# EAGLE library part ISM420X_GPS (library custom)
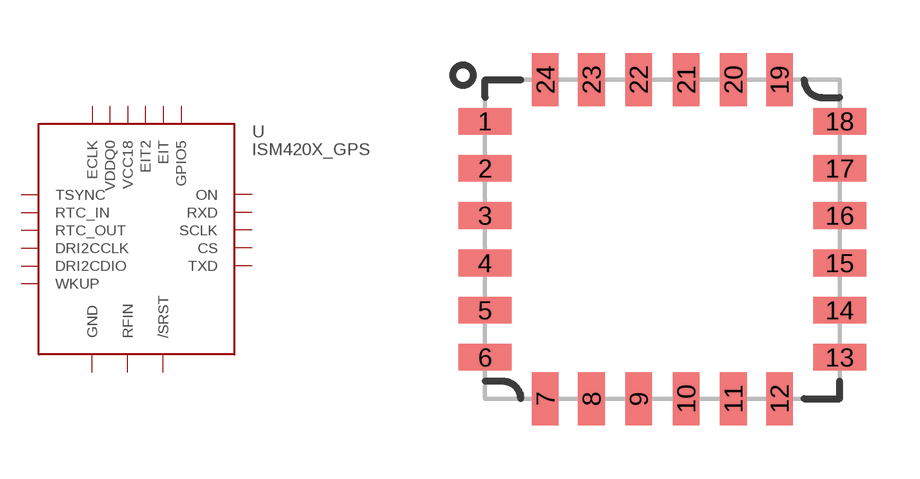
[diagram p102: symbol with the pads of 24-LGA; footprint 24-LGA]

Designator prefix U

## ISM420X_GPS  [24-LGA]
1  TSYNC
2  RTC_IN
3  RTC_OUT
4  DRI2CCLK
5  DRI2CDIO
6  WKUP
7  GND
8  GND
9  RFIN
10  GND
11  /SRST
12  GND
13  GND
14  TXD
15  CS
16  SCLK
17  RXD
18  ON
19  GPIO5
20  EIT
21  EIT2
22  VCC18
23  VDDQ0
24  ECLK

## Footprint 24-LGA (pad centres in mm)
smd 1.5 x 0.75: 1 -5,3.33; 2 -5,2; 3 -5,0.67; 4 -5,-0.67; 5 -5,-2; 6 -5,-3.33; 13 5,-3.33; 14 5,-2; 15 5,-0.67; 16 5,0.67; 17 5,2; 18 5,3.33
smd 0.75 x 1.5: 7 -3.3,-4.5; 8 -2,-4.5; 9 -0.67,-4.5; 10 0.67,-4.5; 11 2,-4.5; 12 3.3,-4.5; 19 3.3,4.5; 20 2,4.5; 21 0.67,4.5; 22 -0.67,4.5; 23 -2,4.5; 24 -3.3,4.5